# EAGLE library part VITA-CUSTOM (library mini-pci-e)
Vita specific half Mini PCI Express module.
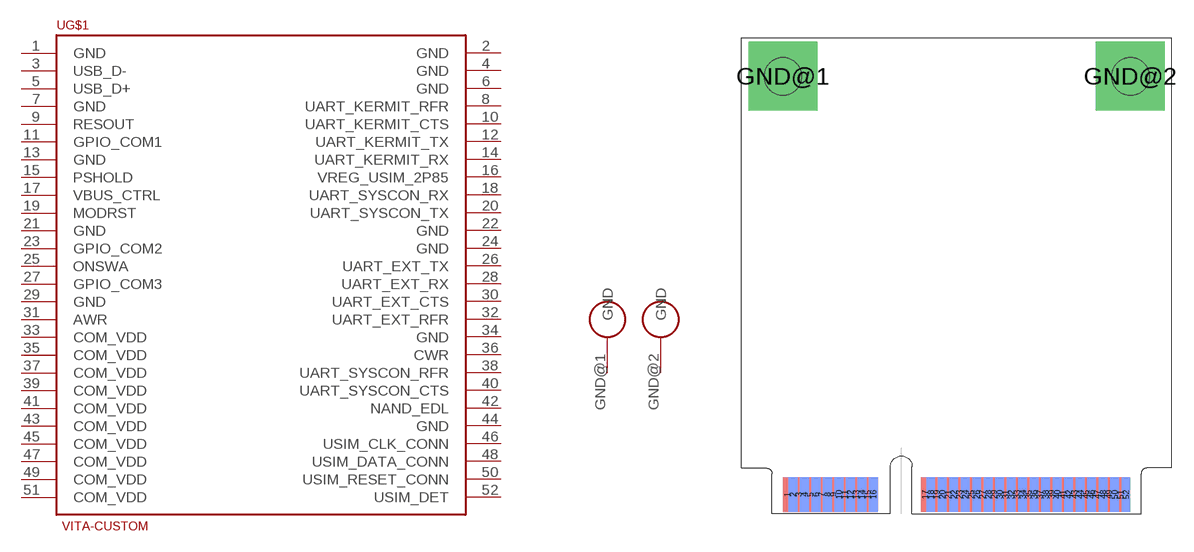
[diagram p2: symbol with the pads of VITA-MINI-PCI-E; footprint VITA-MINI-PCI-E]

Designator prefix -; gates G$2=GND-PIN G$3=GND-PIN G$1=VITA-CUSTOM

## VITA-CUSTOM  [VITA-MINI-PCI-E]
1  G$1:GND
2  G$1:GND
3  G$1:USB_D-
4  G$1:GND
5  G$1:USB_D+
6  G$1:GND
7  G$1:GND
8  G$1:UART_KERMIT_RFR
9  G$1:RESOUT
10  G$1:UART_KERMIT_CTS
11  G$1:GPIO_COM1
12  G$1:UART_KERMIT_TX
13  G$1:GND
14  G$1:UART_KERMIT_RX
15  G$1:PSHOLD
16  G$1:VREG_USIM_2P85
17  G$1:VBUS_CTRL
18  G$1:UART_SYSCON_RX
19  G$1:MODRST
20  G$1:UART_SYSCON_TX
21  G$1:GND
22  G$1:GND
23  G$1:GPIO_COM2
24  G$1:GND
25  G$1:ONSWA
26  G$1:UART_EXT_TX
27  G$1:GPIO_COM3
28  G$1:UART_EXT_RX
29  G$1:GND
30  G$1:UART_EXT_CTS
31  G$1:AWR
32  G$1:UART_EXT_RFR
33  G$1:COM_VDD
34  G$1:GND
35  G$1:COM_VDD
36  G$1:CWR
37  G$1:COM_VDD
38  G$1:UART_SYSCON_RFR
39  G$1:COM_VDD
40  G$1:UART_SYSCON_CTS
41  G$1:COM_VDD
42  G$1:NAND_EDL
43  G$1:COM_VDD
44  G$1:GND
45  G$1:COM_VDD
46  G$1:USIM_CLK_CONN
47  G$1:COM_VDD
48  G$1:USIM_DATA_CONN
49  G$1:COM_VDD
50  G$1:USIM_RESET_CONN
51  G$1:COM_VDD
52  G$1:USIM_DET
GND@1  G$2:GND  pwr
GND@2  G$3:GND  pwr

## Footprint VITA-MINI-PCI-E (pad centres in mm)
smd 0.6 x 2.4: 1 -7.95,1.35; 3 -7.15,1.35; 5 -6.35,1.35; 7 -5.55,1.35; 9 -4.75,1.35; 11 -3.95,1.35; 13 -3.15,1.35; 15 -2.35,1.35; 17 1.65,1.35; 19 2.45,1.35; 21 3.25,1.35; 23 4.05,1.35; 25 4.85,1.35; 27 5.65,1.35; 29 6.45,1.35; 31 7.25,1.35; 33 8.05,1.35; 35 8.85,1.35; 37 9.65,1.35; 39 10.45,1.35; 41 11.25,1.35; 43 12.05,1.35; 45 12.85,1.35; 47 13.65,1.35; 49 14.45,1.35; 51 15.25,1.35
smd 0.6 x 2.4 bottom: 2 -7.55,1.35; 4 -6.75,1.35; 6 -5.95,1.35; 8 -5.15,1.35; 10 -4.35,1.35; 12 -3.55,1.35; 14 -2.75,1.35; 16 -1.95,1.35; 18 2.05,1.35; 20 2.85,1.35; 22 3.65,1.35; 24 4.45,1.35; 26 5.25,1.35; 28 6.05,1.35; 30 6.85,1.35; 32 7.65,1.35; 34 8.45,1.35; 36 9.25,1.35; 38 10.05,1.35; 40 10.85,1.35; 42 11.65,1.35; 44 12.45,1.35; 46 13.25,1.35; 48 14.05,1.35; 50 14.85,1.35; 52 15.65,1.35
drill 2.6 pad 4.8 square: GND@1 -8.25,30.5; GND@2 15.95,30.5
hole 2.6 at -8.25,30.5
hole 2.6 at 15.95,30.5